# Altium footprint library STD30N6LF6AG.PcbLib: 1 footprints
Each footprint in its own frame and in the unit in brackets; x right, y up, seen from the top. Pads: shape width x height; smd on the part's side, far side on the other; paste and mask are expansions set on the pad; w line width, h text height; cw(c..) or ccw(c..) is an arc to the next point about the centre after c.
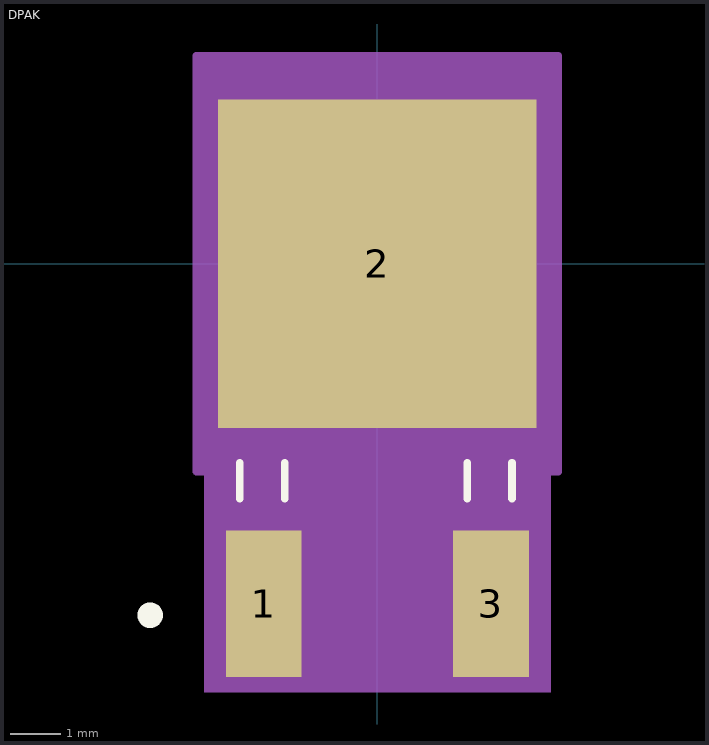
[diagram p0: the footprint, top view; thin cyan lines are the x and y axes]

## DPAK [mm]
pads (3):
  rect 1.5x2.9 smd paste+0 mask+0: 1(-2.25,-6.731) 3(2.25,-6.731)
  rect 6.3x6.5 smd paste+0 mask+0: 2(0,0)
Top Overlay:
  circle w0.254: c-4.496,-6.96 r0.127
  lines w0.152: -2.722,-4.648 -2.722,-3.94 ; -1.833,-4.648 -1.833,-3.94 ; 1.778,-4.648 1.778,-3.94 ; 2.667,-4.648 2.667,-3.94
Mechanical 13:
  lines w0.025: -3.302,-3.505 -3.302,3.505 3.302,3.505 3.302,-3.505 -3.302,-3.505 ; -2.695,-6.604 -1.806,-6.604 -1.806,-3.505 -2.695,-3.505 -2.695,-6.604 ; 1.806,-6.604 2.695,-6.604 2.695,-3.505 1.806,-3.505 1.806,-6.604
  text "*" at -2.568,-3.886 h1.27
Mechanical 15:
  region: -3.429,-4.115 -3.581,-4.115 -3.581,4.115 3.581,4.115 3.581,-4.115 3.429,-4.115 3.429,-8.484 -3.429,-8.484
  lines w0.152: -3.581,-4.115 -2.974,-4.115 -2.974,-7.214 2.974,-7.214 2.974,-4.115 3.581,-4.115 3.581,4.115 -3.581,4.115 -3.581,-4.115
3D body: height 0.25, standoff 0, extent 0,0 0.254,0.254
3D body: height 2.42, standoff -0.05, extent 8.915,1.499 8.915,1.499
3D body: height 2.2, standoff 0, extent -3.175,-3.251 3.15,3.226